# Altium schematic symbol library Generic 0603 Resistor.SchLib: 1 symbol
Pins are listed as number, name and electrical type; pins without a type are passive.

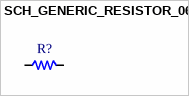
[diagram p0: symbol SCH_GENERIC_RESISTOR_0603]

## SCH_GENERIC_RESISTOR_0603
designator R?  (value not drawn)
Generic SMD resistor 0603; Resistance: *
footprint PCB_GENERIC_SMD_0603
pins: 1, 2